# Altium integrated library WE-LF Common Mode Power Line Choke.IntLib: 54 symbols
Pins are listed as number, name and electrical type; pins without a type are passive.

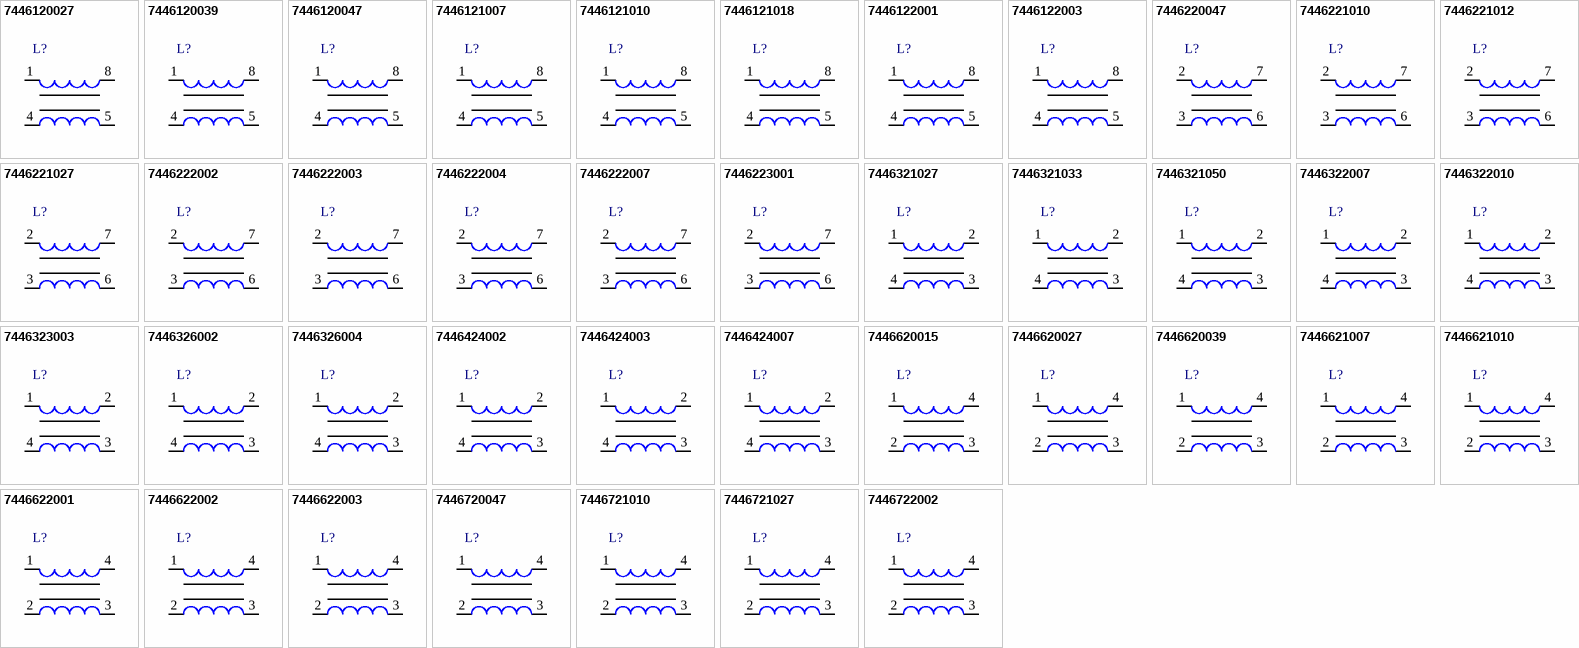
[diagram p0: symbols 7446120027 to 7446722002]

## 7446120027
designator L?
THT Common Mode Power Line Choke WE-LF, L = 27.0 mH; PartNumber: 7446120027; Inductance: 27.0 mH; DatasheetVersion: ver 2, Nov-2005; PackageReference: WE-LF-SV; PackageDescription: THT Inductor, 4-Leads, Body 18.5 x 13.5 mm; ComponentLink1Description: Manufacturer URL; ComponentLink1URL: http://www.we-online.com; ComponentLink2Description: Datasheet; ComponentLink2URL: http://www.we-online.de/katalog/media/pdf/7446120027.pdf
footprint WE-LF-SV (THT Inductor, 4-Leads, Body 18.5x13.5x20.5 mm)
pins: 1, 4, 5, 8

## 7446120039
designator L?
THT Common Mode Power Line Choke WE-LF, L = 39.0 mH; PartNumber: 7446120039; Inductance: 39.0 mH; DatasheetVersion: ver 2, Nov-2005; PackageReference: WE-LF-SV; PackageDescription: THT Inductor, 4-Leads, Body 18.5 x 13.5 mm; ComponentLink1Description: Manufacturer URL; ComponentLink1URL: http://www.we-online.com; ComponentLink2Description: Datasheet; ComponentLink2URL: http://www.we-online.de/katalog/media/pdf/7446120039.pdf
footprint WE-LF-SV (THT Inductor, 4-Leads, Body 18.5x13.5x20.5 mm)
pins: 1, 4, 5, 8

## 7446120047
designator L?
THT Common Mode Power Line Choke WE-LF, L = 47.0 mH; PartNumber: 7446120047; Inductance: 47.0 mH; DatasheetVersion: ver 2, Nov-2005; PackageReference: WE-LF-SV; PackageDescription: THT Inductor, 4-Leads, Body 18.5 x 13.5 mm; ComponentLink1Description: Manufacturer URL; ComponentLink1URL: http://www.we-online.com; ComponentLink2Description: Datasheet; ComponentLink2URL: http://www.we-online.de/katalog/media/pdf/7446120047.pdf
footprint WE-LF-SV (THT Inductor, 4-Leads, Body 18.5x13.5x20.5 mm)
pins: 1, 4, 5, 8

## 7446121007
designator L?
THT Common Mode Power Line Choke WE-LF, L = 6.80 mH; PartNumber: 7446121007; Inductance: 6.80 mH; DatasheetVersion: ver 2, Nov-2005; PackageReference: WE-LF-SV; PackageDescription: THT Inductor, 4-Leads, Body 18.5 x 13.5 mm; ComponentLink1Description: Manufacturer URL; ComponentLink1URL: http://www.we-online.com; ComponentLink2Description: Datasheet; ComponentLink2URL: http://www.we-online.de/katalog/media/pdf/7446121007.pdf
footprint WE-LF-SV (THT Inductor, 4-Leads, Body 18.5x13.5x20.5 mm)
pins: 1, 4, 5, 8

## 7446121010
designator L?
THT Common Mode Power Line Choke WE-LF, L = 10.0 mH; PartNumber: 7446121010; Inductance: 10.0 mH; DatasheetVersion: ver 2, Nov-2005; PackageReference: WE-LF-SV; PackageDescription: THT Inductor, 4-Leads, Body 18.5 x 13.5 mm; ComponentLink1Description: Manufacturer URL; ComponentLink1URL: http://www.we-online.com; ComponentLink2Description: Datasheet; ComponentLink2URL: http://www.we-online.de/katalog/media/pdf/7446121010.pdf
footprint WE-LF-SV (THT Inductor, 4-Leads, Body 18.5x13.5x20.5 mm)
pins: 1, 4, 5, 8

## 7446121018
designator L?
THT Common Mode Power Line Choke WE-LF, L = 18.0 mH; PartNumber: 7446121018; Inductance: 18.0 mH; DatasheetVersion: ver 2, Nov-2005; PackageReference: WE-LF-SV; PackageDescription: THT Inductor, 4-Leads, Body 18.5 x 13.5 mm; ComponentLink1Description: Manufacturer URL; ComponentLink1URL: http://www.we-online.com; ComponentLink2Description: Datasheet; ComponentLink2URL: http://www.we-online.de/katalog/media/pdf/7446121018.pdf
footprint WE-LF-SV (THT Inductor, 4-Leads, Body 18.5x13.5x20.5 mm)
pins: 1, 4, 5, 8

## 7446122001
designator L?
THT Common Mode Power Line Choke WE-LF, L = 1.00 mH; PartNumber: 7446122001; Inductance: 1.00 mH; DatasheetVersion: ver 2, Nov-2005; PackageReference: WE-LF-SV; PackageDescription: THT Inductor, 4-Leads, Body 18.5 x 13.5 mm; ComponentLink1Description: Manufacturer URL; ComponentLink1URL: http://www.we-online.com; ComponentLink2Description: Datasheet; ComponentLink2URL: http://www.we-online.de/katalog/media/pdf/7446122001.pdf
footprint WE-LF-SV (THT Inductor, 4-Leads, Body 18.5x13.5x20.5 mm)
pins: 1, 4, 5, 8

## 7446122003
designator L?
THT Common Mode Power Line Choke WE-LF, L = 3.30 mH; PartNumber: 7446122003; Inductance: 3.30 mH; DatasheetVersion: ver 2, Nov-2005; PackageReference: WE-LF-SV; PackageDescription: THT Inductor, 4-Leads, Body 18.5 x 13.5 mm; ComponentLink1Description: Manufacturer URL; ComponentLink1URL: http://www.we-online.com; ComponentLink2Description: Datasheet; ComponentLink2URL: http://www.we-online.de/katalog/media/pdf/7446122003.pdf
footprint WE-LF-SV (THT Inductor, 4-Leads, Body 18.5x13.5x20.5 mm)
pins: 1, 4, 5, 8

## 7446220047
designator L?
THT Common Mode Power Line Choke WE-LF, L = 47.0 mH; PartNumber: 7446220047; Inductance: 47.0 mH; DatasheetVersion: ver 3, Nov-2005; PackageReference: WE-LF-MV; PackageDescription: THT Inductor, 4-Leads, Body 23.5 x 16.0 mm; ComponentLink1Description: Manufacturer URL; ComponentLink1URL: http://www.we-online.com; ComponentLink2Description: Datasheet; ComponentLink2URL: http://www.we-online.de/katalog/media/pdf/7446220047.pdf
footprint WE-LF-MV (THT Inductor, 4-Leads, Body 23.5x16.0x25.5 mm)
pins: 2, 3, 6, 7

## 7446221010
designator L?
THT Common Mode Power Line Choke WE-LF, L = 10.0 mH; PartNumber: 7446221010; Inductance: 10.0 mH; DatasheetVersion: ver 3, Nov-2005; PackageReference: WE-LF-MV; PackageDescription: THT Inductor, 4-Leads, Body 23.5 x 16.0 mm; ComponentLink1Description: Manufacturer URL; ComponentLink1URL: http://www.we-online.com; ComponentLink2Description: Datasheet; ComponentLink2URL: http://www.we-online.de/katalog/media/pdf/7446221010.pdf
footprint WE-LF-MV (THT Inductor, 4-Leads, Body 23.5x16.0x25.5 mm)
pins: 2, 3, 6, 7

## 7446221012
designator L?
THT Common Mode Power Line Choke WE-LF, L = 12.0 mH; PartNumber: 7446221012; Inductance: 12.0 mH; DatasheetVersion: ver 3, Nov-2005; PackageReference: WE-LF-MV; PackageDescription: THT Inductor, 4-Leads, Body 23.5 x 16.0 mm; ComponentLink1Description: Manufacturer URL; ComponentLink1URL: http://www.we-online.com; ComponentLink2Description: Datasheet; ComponentLink2URL: http://www.we-online.de/katalog/media/pdf/7446221012.pdf
footprint WE-LF-MV (THT Inductor, 4-Leads, Body 23.5x16.0x25.5 mm)
pins: 2, 3, 6, 7

## 7446221027
designator L?
THT Common Mode Power Line Choke WE-LF, L = 27.0 mH; PartNumber: 7446221027; Inductance: 27.0 mH; DatasheetVersion: ver 3, Nov-2005; PackageReference: WE-LF-MV; PackageDescription: THT Inductor, 4-Leads, Body 23.5 x 16.0 mm; ComponentLink1Description: Manufacturer URL; ComponentLink1URL: http://www.we-online.com; ComponentLink2Description: Datasheet; ComponentLink2URL: http://www.we-online.de/katalog/media/pdf/7446221027.pdf
footprint WE-LF-MV (THT Inductor, 4-Leads, Body 23.5x16.0x25.5 mm)
pins: 2, 3, 6, 7

## 7446222002
designator L?
THT Common Mode Power Line Choke WE-LF, L = 2.20 mH; PartNumber: 7446222002; Inductance: 2.20 mH; DatasheetVersion: ver 3, Nov-2005; PackageReference: WE-LF-MV; PackageDescription: THT Inductor, 4-Leads, Body 23.5 x 16.0 mm; ComponentLink1Description: Manufacturer URL; ComponentLink1URL: http://www.we-online.com; ComponentLink2Description: Datasheet; ComponentLink2URL: http://www.we-online.de/katalog/media/pdf/7446222002.pdf
footprint WE-LF-MV (THT Inductor, 4-Leads, Body 23.5x16.0x25.5 mm)
pins: 2, 3, 6, 7

## 7446222003
designator L?
THT Common Mode Power Line Choke WE-LF, L = 3.30 mH; PartNumber: 7446222003; Inductance: 3.30 mH; DatasheetVersion: ver 3, Nov-2005; PackageReference: WE-LF-MV; PackageDescription: THT Inductor, 4-Leads, Body 23.5 x 16.0 mm; ComponentLink1Description: Manufacturer URL; ComponentLink1URL: http://www.we-online.com; ComponentLink2Description: Datasheet; ComponentLink2URL: http://www.we-online.de/katalog/media/pdf/7446222003.pdf
footprint WE-LF-MV (THT Inductor, 4-Leads, Body 23.5x16.0x25.5 mm)
pins: 2, 3, 6, 7

## 7446222004
designator L?
THT Common Mode Power Line Choke WE-LF, L = 4.20 mH; PartNumber: 7446222004; Inductance: 4.20 mH; DatasheetVersion: ver 3, Nov-2005; PackageReference: WE-LF-MV; PackageDescription: THT Inductor, 4-Leads, Body 23.5 x 16.0 mm; ComponentLink1Description: Manufacturer URL; ComponentLink1URL: http://www.we-online.com; ComponentLink2Description: Datasheet; ComponentLink2URL: http://www.we-online.de/katalog/media/pdf/7446222004.pdf
footprint WE-LF-MV (THT Inductor, 4-Leads, Body 23.5x16.0x25.5 mm)
pins: 2, 3, 6, 7

## 7446222007
designator L?
THT Common Mode Power Line Choke WE-LF, L = 6.80 mH; PartNumber: 7446222007; Inductance: 6.80 mH; DatasheetVersion: ver 3, Nov-2005; PackageReference: WE-LF-MV; PackageDescription: THT Inductor, 4-Leads, Body 23.5 x 16.0 mm; ComponentLink1Description: Manufacturer URL; ComponentLink1URL: http://www.we-online.com; ComponentLink2Description: Datasheet; ComponentLink2URL: http://www.we-online.de/katalog/media/pdf/7446222007.pdf
footprint WE-LF-MV (THT Inductor, 4-Leads, Body 23.5x16.0x25.5 mm)
pins: 2, 3, 6, 7

## 7446223001
designator L?
THT Common Mode Power Line Choke WE-LF, L = 1.00 mH; PartNumber: 7446223001; Inductance: 1.00 mH; DatasheetVersion: ver 3, Nov-2005; PackageReference: WE-LF-MV; PackageDescription: THT Inductor, 4-Leads, Body 23.5 x 16.0 mm; ComponentLink1Description: Manufacturer URL; ComponentLink1URL: http://www.we-online.com; ComponentLink2Description: Datasheet; ComponentLink2URL: http://www.we-online.de/katalog/media/pdf/7446223001.pdf
footprint WE-LF-MV (THT Inductor, 4-Leads, Body 23.5x16.0x25.5 mm)
pins: 2, 3, 6, 7

## 7446321027
designator L?
THT Common Mode Power Line Choke WE-LF, L = 27.0 mH; PartNumber: 7446321027; Inductance: 27.0 mH; DatasheetVersion: ver 4, Nov-2005; PackageReference: WE-LF-LV; PackageDescription: THT Inductor, 4-Leads, Body 26.5 x 18.5 mm; ComponentLink1Description: Manufacturer URL; ComponentLink1URL: http://www.we-online.com; ComponentLink2Description: Datasheet; ComponentLink2URL: http://www.we-online.de/katalog/media/pdf/7446321027.pdf
footprint WE-LF-LV (THT Inductor, 4-Leads, Body 26.5x18.5x30.5 mm)
pins: 1, 2, 3, 4

## 7446321033
designator L?
THT Common Mode Power Line Choke WE-LF, L = 33.0 mH; PartNumber: 7446321033; Inductance: 33.0 mH; DatasheetVersion: ver 4, Nov-2005; PackageReference: WE-LF-LV; PackageDescription: THT Inductor, 4-Leads, Body 26.5 x 18.5 mm; ComponentLink1Description: Manufacturer URL; ComponentLink1URL: http://www.we-online.com; ComponentLink2Description: Datasheet; ComponentLink2URL: http://www.we-online.de/katalog/media/pdf/7446321033.pdf
footprint WE-LF-LV (THT Inductor, 4-Leads, Body 26.5x18.5x30.5 mm)
pins: 1, 2, 3, 4

## 7446321050
designator L?
THT Common Mode Power Line Choke WE-LF, L = 50.0 mH; PartNumber: 7446321050; Inductance: 50.0 mH; DatasheetVersion: ver 4, Nov-2005; PackageReference: WE-LF-LV; PackageDescription: THT Inductor, 4-Leads, Body 26.5 x 18.5 mm; ComponentLink1Description: Manufacturer URL; ComponentLink1URL: http://www.we-online.com; ComponentLink2Description: Datasheet; ComponentLink2URL: http://www.we-online.de/katalog/media/pdf/7446321050.pdf
footprint WE-LF-LV (THT Inductor, 4-Leads, Body 26.5x18.5x30.5 mm)
pins: 1, 2, 3, 4

## 7446322007
designator L?
THT Common Mode Power Line Choke WE-LF, L = 6.80 mH; PartNumber: 7446322007; Inductance: 6.80 mH; DatasheetVersion: ver 4, Nov-2005; PackageReference: WE-LF-LV; PackageDescription: THT Inductor, 4-Leads, Body 26.5 x 18.5 mm; ComponentLink1Description: Manufacturer URL; ComponentLink1URL: http://www.we-online.com; ComponentLink2Description: Datasheet; ComponentLink2URL: http://www.we-online.de/katalog/media/pdf/7446322007.pdf
footprint WE-LF-LV (THT Inductor, 4-Leads, Body 26.5x18.5x30.5 mm)
pins: 1, 2, 3, 4

## 7446322010
designator L?
THT Common Mode Power Line Choke WE-LF, L = 10.0 mH; PartNumber: 7446322010; Inductance: 10.0 mH; DatasheetVersion: ver 4, Nov-2005; PackageReference: WE-LF-LV; PackageDescription: THT Inductor, 4-Leads, Body 26.5 x 18.5 mm; ComponentLink1Description: Manufacturer URL; ComponentLink1URL: http://www.we-online.com; ComponentLink2Description: Datasheet; ComponentLink2URL: http://www.we-online.de/katalog/media/pdf/7446322010.pdf
footprint WE-LF-LV (THT Inductor, 4-Leads, Body 26.5x18.5x30.5 mm)
pins: 1, 2, 3, 4

## 7446323003
designator L?
THT Common Mode Power Line Choke WE-LF, L = 2.70 mH; PartNumber: 7446323003; Inductance: 2.70 mH; DatasheetVersion: ver 4, Nov-2005; PackageReference: WE-LF-LV; PackageDescription: THT Inductor, 4-Leads, Body 26.5 x 18.5 mm; ComponentLink1Description: Manufacturer URL; ComponentLink1URL: http://www.we-online.com; ComponentLink2Description: Datasheet; ComponentLink2URL: http://www.we-online.de/katalog/media/pdf/7446323003.pdf
footprint WE-LF-LV (THT Inductor, 4-Leads, Body 26.5x18.5x30.5 mm)
pins: 1, 2, 3, 4

## 7446326002
designator L?
THT Common Mode Power Line Choke WE-LF, L = 1.80 mH; PartNumber: 7446326002; Inductance: 1.80 mH; DatasheetVersion: ver 4, Nov-2005; PackageReference: WE-LF-LV; PackageDescription: THT Inductor, 4-Leads, Body 26.5 x 18.5 mm; ComponentLink1Description: Manufacturer URL; ComponentLink1URL: http://www.we-online.com; ComponentLink2Description: Datasheet; ComponentLink2URL: http://www.we-online.de/katalog/media/pdf/7446326002.pdf
footprint WE-LF-LV (THT Inductor, 4-Leads, Body 26.5x18.5x30.5 mm)
pins: 1, 2, 3, 4

## 7446326004
designator L?
THT Common Mode Power Line Choke WE-LF, L=4.00 mH; PartNumber: 7446326004; Inductance: 4.00 mH; PackageReference: WE-LF-LV; PackageDescription: THT Inductor, 4-Leads, Body 26.5 x 18.5 mm; ComponentLink1Description: Manufacturer URL; ComponentLink1URL: http://www.we-online.com; ComponentLink2Description: Datasheet; ComponentLink2URL: http://www.we-online.de/katalog/media/pdf/7446326004.pdf
footprint WE-LF-LV (THT Inductor, 4-Leads, Body 26.5x18.5x30.5 mm)
pins: 1, 2, 3, 4

## 7446424002
designator L?
THT Common Mode Power Line Choke WE-LF, L = 2.20 mH; PartNumber: 7446424002; Inductance: 2.20 mH; DatasheetVersion: ver 3, Nov-2005; PackageReference: WE-LF-XV; PackageDescription: THT Inductor, 4-Leads, Body 32.5 x 21.5 mm; ComponentLink1Description: Manufacturer URL; ComponentLink1URL: http://www.we-online.com; ComponentLink2Description: Datasheet; ComponentLink2URL: http://www.we-online.de/katalog/media/pdf/7446424002.pdf
footprint WE-LF-XV (THT Inductor, 4-Leads, Body 32.5x21.5x35.5 mm)
pins: 1, 2, 3, 4

## 7446424003
designator L?
THT Common Mode Power Line Choke WE-LF, L = 3.30 mH; PartNumber: 7446424003; Inductance: 3.30 mH; DatasheetVersion: ver 3, Nov-2005; PackageReference: WE-LF-XV; PackageDescription: THT Inductor, 4-Leads, Body 32.5 x 21.5 mm; ComponentLink1Description: Manufacturer URL; ComponentLink1URL: http://www.we-online.com; ComponentLink2Description: Datasheet; ComponentLink2URL: http://www.we-online.de/katalog/media/pdf/7446424003.pdf
footprint WE-LF-XV (THT Inductor, 4-Leads, Body 32.5x21.5x35.5 mm)
pins: 1, 2, 3, 4

## 7446424007
designator L?
THT Common Mode Power Line Choke WE-LF, L=6.80 mH; PartNumber: 7446424007; Inductance: 6.80 mH; PackageReference: WE-LF-XV; PackageDescription: THT Inductor, 4-Leads, Body 32.5 x 21.5 mm; ComponentLink1Description: Manufacturer URL; ComponentLink1URL: http://www.we-online.com; ComponentLink2Description: Datasheet; ComponentLink2URL: http://www.we-online.de/katalog/media/pdf/7446424007.pdf
footprint WE-LF-XV (THT Inductor, 4-Leads, Body 32.5x21.5x35.5 mm)
pins: 1, 2, 3, 4

## 7446620015
designator L?
THT Common Mode Power Line Choke WE-LF, L = 15.0 mH; PartNumber: 7446620015; Inductance: 15.0 mH; DatasheetVersion: ver 3, Nov-2005; PackageReference: WE-LF-SH; PackageDescription: THT Inductor, 4-Leads, Body 18.0 x 18.0 mm; ComponentLink1Description: Manufacturer URL; ComponentLink1URL: http://www.we-online.com; ComponentLink2Description: Datasheet; ComponentLink2URL: http://www.we-online.de/katalog/media/pdf/7446620015.pdf
footprint WE-LF-SH (THT Inductor, 4-Leads, Body 18.0x18.0x13.0 mm)
pins: 1, 2, 3, 4

## 7446620027
designator L?
THT Common Mode Power Line Choke WE-LF, L = 27.0 mH; PartNumber: 7446620027; Inductance: 27.0 mH; DatasheetVersion: ver 3, Nov-2005; PackageReference: WE-LF-SH; PackageDescription: THT Inductor, 4-Leads, Body 18.0 x 18.0 mm; ComponentLink1Description: Manufacturer URL; ComponentLink1URL: http://www.we-online.com; ComponentLink2Description: Datasheet; ComponentLink2URL: http://www.we-online.de/katalog/media/pdf/7446620027.pdf
footprint WE-LF-SH (THT Inductor, 4-Leads, Body 18.0x18.0x13.0 mm)
pins: 1, 2, 3, 4

## 7446620039
designator L?
THT Common Mode Power Line Choke WE-LF, L = 39.0 mH; PartNumber: 7446620039; Inductance: 39.0 mH; DatasheetVersion: ver 3, Nov-2005; PackageReference: WE-LF-SH; PackageDescription: THT Inductor, 4-Leads, Body 18.0 x 18.0 mm; ComponentLink1Description: Manufacturer URL; ComponentLink1URL: http://www.we-online.com; ComponentLink2Description: Datasheet; ComponentLink2URL: http://www.we-online.de/katalog/media/pdf/7446620039.pdf
footprint WE-LF-SH (THT Inductor, 4-Leads, Body 18.0x18.0x13.0 mm)
pins: 1, 2, 3, 4

## 7446621007
designator L?
THT Common Mode Power Line Choke WE-LF, L = 6.80 mH; PartNumber: 7446621007; Inductance: 6.80 mH; DatasheetVersion: ver 3, Nov-2005; PackageReference: WE-LF-SH; PackageDescription: THT Inductor, 4-Leads, Body 18.0 x 18.0 mm; ComponentLink1Description: Manufacturer URL; ComponentLink1URL: http://www.we-online.com; ComponentLink2Description: Datasheet; ComponentLink2URL: http://www.we-online.de/katalog/media/pdf/7446621007.pdf
footprint WE-LF-SH (THT Inductor, 4-Leads, Body 18.0x18.0x13.0 mm)
pins: 1, 2, 3, 4

## 7446621010
designator L?
THT Common Mode Power Line Choke WE-LF, L = 10.0 mH; PartNumber: 7446621010; Inductance: 10.0 mH; DatasheetVersion: ver 3, Nov-2005; PackageReference: WE-LF-SH; PackageDescription: THT Inductor, 4-Leads, Body 18.0 x 18.0 mm; ComponentLink1Description: Manufacturer URL; ComponentLink1URL: http://www.we-online.com; ComponentLink2Description: Datasheet; ComponentLink2URL: http://www.we-online.de/katalog/media/pdf/7446621010.pdf
footprint WE-LF-SH (THT Inductor, 4-Leads, Body 18.0x18.0x13.0 mm)
pins: 1, 2, 3, 4

## 7446622001
designator L?
THT Common Mode Power Line Choke WE-LF, L = 1.00 mH; PartNumber: 7446622001; Inductance: 1.00 mH; DatasheetVersion: ver 3, Nov-2005; PackageReference: WE-LF-SH; PackageDescription: THT Inductor, 4-Leads, Body 18.0 x 18.0 mm; ComponentLink1Description: Manufacturer URL; ComponentLink1URL: http://www.we-online.com; ComponentLink2Description: Datasheet; ComponentLink2URL: http://www.we-online.de/katalog/media/pdf/7446622001.pdf
footprint WE-LF-SH (THT Inductor, 4-Leads, Body 18.0x18.0x13.0 mm)
pins: 1, 2, 3, 4

## 7446622002
designator L?
THT Common Mode Power Line Choke WE-LF, L = 2.20 mH; PartNumber: 7446622002; Inductance: 2.20 mH; DatasheetVersion: ver 3, Nov-2005; PackageReference: WE-LF-SH; PackageDescription: THT Inductor, 4-Leads, Body 18.0 x 18.0 mm; ComponentLink1Description: Manufacturer URL; ComponentLink1URL: http://www.we-online.com; ComponentLink2Description: Datasheet; ComponentLink2URL: http://www.we-online.de/katalog/media/pdf/7446622002.pdf
footprint WE-LF-SH (THT Inductor, 4-Leads, Body 18.0x18.0x13.0 mm)
pins: 1, 2, 3, 4

## 7446622003
designator L?
THT Common Mode Power Line Choke WE-LF, L = 3.30 mH; PartNumber: 7446622003; Inductance: 3.30 mH; DatasheetVersion: ver 3, Nov-2005; PackageReference: WE-LF-SH; PackageDescription: THT Inductor, 4-Leads, Body 18.0 x 18.0 mm; ComponentLink1Description: Manufacturer URL; ComponentLink1URL: http://www.we-online.com; ComponentLink2Description: Datasheet; ComponentLink2URL: http://www.we-online.de/katalog/media/pdf/7446622003.pdf
footprint WE-LF-SH (THT Inductor, 4-Leads, Body 18.0x18.0x13.0 mm)
pins: 1, 2, 3, 4

## 7446720047
designator L?
THT Common Mode Power Line Choke WE-LF, L = 47.0 mH; PartNumber: 7446720047; Inductance: 47.0 mH; DatasheetVersion: ver 3, Nov-2005; PackageReference: WE-LF-MH; PackageDescription: THT Inductor, 4-Leads, Body 23.0 x 23.0 mm; ComponentLink1Description: Manufacturer URL; ComponentLink1URL: http://www.we-online.com; ComponentLink2Description: Datasheet; ComponentLink2URL: http://www.we-online.de/katalog/media/pdf/7446720047.pdf
footprint WE-LF-MH (THT Inductor, 4-Leads, Body 23.0x23.0x14.5 mm)
pins: 1, 2, 3, 4

## 7446721010
designator L?
THT Common Mode Power Line Choke WE-LF, L = 10.0 mH; PartNumber: 7446721010; Inductance: 10.0 mH; DatasheetVersion: ver 3, Nov-2005; PackageReference: WE-LF-MH; PackageDescription: THT Inductor, 4-Leads, Body 23.0 x 23.0 mm; ComponentLink1Description: Manufacturer URL; ComponentLink1URL: http://www.we-online.com; ComponentLink2Description: Datasheet; ComponentLink2URL: http://www.we-online.de/katalog/media/pdf/7446721010.pdf
footprint WE-LF-MH (THT Inductor, 4-Leads, Body 23.0x23.0x14.5 mm)
pins: 1, 2, 3, 4

## 7446721027
designator L?
THT Common Mode Power Line Choke WE-LF, L = 27.0 mH; PartNumber: 7446721027; Inductance: 27.0 mH; DatasheetVersion: ver 3, Nov-2005; PackageReference: WE-LF-MH; PackageDescription: THT Inductor, 4-Leads, Body 23.0 x 23.0 mm; ComponentLink1Description: Manufacturer URL; ComponentLink1URL: http://www.we-online.com; ComponentLink2Description: Datasheet; ComponentLink2URL: http://www.we-online.de/katalog/media/pdf/7446721027.pdf
footprint WE-LF-MH (THT Inductor, 4-Leads, Body 23.0x23.0x14.5 mm)
pins: 1, 2, 3, 4

## 7446722002
designator L?
THT Common Mode Power Line Choke WE-LF, L = 2.20 mH; PartNumber: 7446722002; Inductance: 2.20 mH; DatasheetVersion: ver 3, Nov-2005; PackageReference: WE-LF-MH; PackageDescription: THT Inductor, 4-Leads, Body 23.0 x 23.0 mm; ComponentLink1Description: Manufacturer URL; ComponentLink1URL: http://www.we-online.com; ComponentLink2Description: Datasheet; ComponentLink2URL: http://www.we-online.de/katalog/media/pdf/7446722002.pdf
footprint WE-LF-MH (THT Inductor, 4-Leads, Body 23.0x23.0x14.5 mm)
pins: 1, 2, 3, 4

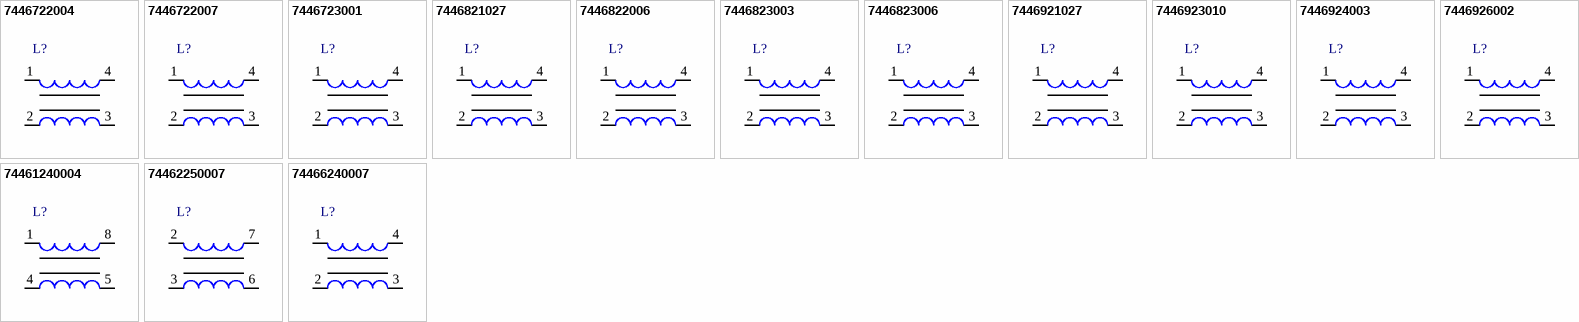
[diagram p1: symbols 7446722004 to 74466240007]

## 7446722004
designator L?
THT Common Mode Power Line Choke WE-LF, L = 4.20 mH; PartNumber: 7446722004; Inductance: 4.20 mH; DatasheetVersion: ver 3, Nov-2005; PackageReference: WE-LF-MH; PackageDescription: THT Inductor, 4-Leads, Body 23.0 x 23.0 mm; ComponentLink1Description: Manufacturer URL; ComponentLink1URL: http://www.we-online.com; ComponentLink2Description: Datasheet; ComponentLink2URL: http://www.we-online.de/katalog/media/pdf/7446722004.pdf
footprint WE-LF-MH (THT Inductor, 4-Leads, Body 23.0x23.0x14.5 mm)
pins: 1, 2, 3, 4

## 7446722007
designator L?
THT Common Mode Power Line Choke WE-LF, L = 6.80 mH; PartNumber: 7446722007; Inductance: 6.80 mH; DatasheetVersion: ver 3, Nov-2005; PackageReference: WE-LF-MH; PackageDescription: THT Inductor, 4-Leads, Body 23.0 x 23.0 mm; ComponentLink1Description: Manufacturer URL; ComponentLink1URL: http://www.we-online.com; ComponentLink2Description: Datasheet; ComponentLink2URL: http://www.we-online.de/katalog/media/pdf/7446722007.pdf
footprint WE-LF-MH (THT Inductor, 4-Leads, Body 23.0x23.0x14.5 mm)
pins: 1, 2, 3, 4

## 7446723001
designator L?
THT Common Mode Power Line Choke WE-LF, L = 1.20 mH; PartNumber: 7446723001; Inductance: 1.20 mH; DatasheetVersion: ver 3, Nov-2005; PackageReference: WE-LF-MH; PackageDescription: THT Inductor, 4-Leads, Body 23.0 x 23.0 mm; ComponentLink1Description: Manufacturer URL; ComponentLink1URL: http://www.we-online.com; ComponentLink2Description: Datasheet; ComponentLink2URL: http://www.we-online.de/katalog/media/pdf/7446723001.pdf
footprint WE-LF-MH (THT Inductor, 4-Leads, Body 23.0x23.0x14.5 mm)
pins: 1, 2, 3, 4

## 7446821027
designator L?
THT Common Mode Power Line Choke WE-LF, L = 27.0 mH; PartNumber: 7446821027; Inductance: 27.0 mH; DatasheetVersion: ver 3, Nov-2005; PackageReference: WE-LF-LH; PackageDescription: THT Inductor, 4-Leads, Body 28.5 x 28.5 mm; ComponentLink1Description: Manufacturer URL; ComponentLink1URL: http://www.we-online.com; ComponentLink2Description: Datasheet; ComponentLink2URL: http://www.we-online.de/katalog/media/pdf/7446821027.pdf
footprint WE-LF-LH (THT Inductor, 4-Leads, Body 28.5x28.5x17.0 mm)
pins: 1, 2, 3, 4

## 7446822006
designator L?
THT Common Mode Power Line Choke WE-LF, L = 5.60 mH; PartNumber: 7446822006; Inductance: 5.60 mH; DatasheetVersion: ver 3, Nov-2005; PackageReference: WE-LF-LH; PackageDescription: THT Inductor, 4-Leads, Body 28.5 x 28.5 mm; ComponentLink1Description: Manufacturer URL; ComponentLink1URL: http://www.we-online.com; ComponentLink2Description: Datasheet; ComponentLink2URL: http://www.we-online.de/katalog/media/pdf/7446822006.pdf
footprint WE-LF-LH (THT Inductor, 4-Leads, Body 28.5x28.5x17.0 mm)
pins: 1, 2, 3, 4

## 7446823003
designator L?
THT Common Mode Power Line Choke WE-LF, L = 2.70 mH; PartNumber: 7446823003; Inductance: 2.70 mH; DatasheetVersion: ver 3, Nov-2005; PackageReference: WE-LF-LH; PackageDescription: THT Inductor, 4-Leads, Body 28.5 x 28.5 mm; ComponentLink1Description: Manufacturer URL; ComponentLink1URL: http://www.we-online.com; ComponentLink2Description: Datasheet; ComponentLink2URL: http://www.we-online.de/katalog/media/pdf/7446823003.pdf
footprint WE-LF-LH (THT Inductor, 4-Leads, Body 28.5x28.5x17.0 mm)
pins: 1, 2, 3, 4

## 7446823006
designator L?
THT Common Mode Power Line Choke WE-LF, L = 5.60 mH; PartNumber: 7446823006; Inductance: 5.60 mH; DatasheetVersion: ver 3, Nov-2005; PackageReference: WE-LF-LH; PackageDescription: THT Inductor, 4-Leads, Body 28.5 x 28.5 mm; ComponentLink1Description: Manufacturer URL; ComponentLink1URL: http://www.we-online.com; ComponentLink2Description: Datasheet; ComponentLink2URL: http://www.we-online.de/katalog/media/pdf/7446823006.pdf
footprint WE-LF-LH (THT Inductor, 4-Leads, Body 28.5x28.5x17.0 mm)
pins: 1, 2, 3, 4

## 7446921027
designator L?
THT Common Mode Power Line Choke WE-LF, L = 27.0 mH; PartNumber: 7446921027; Inductance: 27.0 mH; DatasheetVersion: ver 3, Nov-2005; PackageReference: WE-LF-XH; PackageDescription: THT Inductor, 4-Leads, Body 33.5 x 33.5 mm; ComponentLink1Description: Manufacturer URL; ComponentLink1URL: http://www.we-online.com; ComponentLink2Description: Datasheet; ComponentLink2URL: http://www.we-online.de/katalog/media/pdf/7446921027.pdf
footprint WE-LF-XH (THT Inductor, 4-Leads, Body 33.5x33.5x20.0 mm)
pins: 1, 2, 3, 4

## 7446923010
designator L?
THT Common Mode Power Line Choke WE-LF, L = 10.0 mH; PartNumber: 7446923010; Inductance: 10.0 mH; DatasheetVersion: ver 3, Nov-2005; PackageReference: WE-LF-XH; PackageDescription: THT Inductor, 4-Leads, Body 33.5 x 33.5 mm; ComponentLink1Description: Manufacturer URL; ComponentLink1URL: http://www.we-online.com; ComponentLink2Description: Datasheet; ComponentLink2URL: http://www.we-online.de/katalog/media/pdf/7446923010.pdf
footprint WE-LF-XH (THT Inductor, 4-Leads, Body 33.5x33.5x20.0 mm)
pins: 1, 2, 3, 4

## 7446924003
designator L?
THT Common Mode Power Line Choke WE-LF, L = 3.30 mH; PartNumber: 7446924003; Inductance: 3.30 mH; DatasheetVersion: ver 3, Nov-2005; PackageReference: WE-LF-XH; PackageDescription: THT Inductor, 4-Leads, Body 33.5 x 33.5 mm; ComponentLink1Description: Manufacturer URL; ComponentLink1URL: http://www.we-online.com; ComponentLink2Description: Datasheet; ComponentLink2URL: http://www.we-online.de/katalog/media/pdf/7446924003.pdf
footprint WE-LF-XH (THT Inductor, 4-Leads, Body 33.5x33.5x20.0 mm)
pins: 1, 2, 3, 4

## 7446926002
designator L?
THT Common Mode Power Line Choke WE-LF, L = 1.80 mH; PartNumber: 7446926002; Inductance: 1.80 mH; DatasheetVersion: ver 3, Nov-2005; PackageReference: WE-LF-XH; PackageDescription: THT Inductor, 4-Leads, Body 33.5 x 33.5 mm; ComponentLink1Description: Manufacturer URL; ComponentLink1URL: http://www.we-online.com; ComponentLink2Description: Datasheet; ComponentLink2URL: http://www.we-online.de/katalog/media/pdf/7446926002.pdf
footprint WE-LF-XH (THT Inductor, 4-Leads, Body 33.5x33.5x20.0 mm)
pins: 1, 2, 3, 4

## 74461240004
designator L?
THT Common Mode Power Line Choke WE-LF, L = 0.40 mH; PartNumber: 74461240004; Inductance: 0.40 mH; DatasheetVersion: ver 2, Nov-2005; PackageReference: WE-LF-SV; PackageDescription: THT Inductor, 4-Leads, Body 18.5 x 13.5 mm; ComponentLink1Description: Manufacturer URL; ComponentLink1URL: http://www.we-online.com; ComponentLink2Description: Datasheet; ComponentLink2URL: http://www.we-online.de/katalog/media/pdf/74461240004.pdf
footprint WE-LF-SV (THT Inductor, 4-Leads, Body 18.5x13.5x20.5 mm)
pins: 1, 4, 5, 8

## 74462250007
designator L?
THT Common Mode Power Line Choke WE-LF, L = 0.70 mH; PartNumber: 74462250007; Inductance: 0.70 mH; DatasheetVersion: ver 3, Nov-2005; PackageReference: WE-LF-MV; PackageDescription: THT Inductor, 4-Leads, Body 23.5 x 16.0 mm; ComponentLink1Description: Manufacturer URL; ComponentLink1URL: http://www.we-online.com; ComponentLink2Description: Datasheet; ComponentLink2URL: http://www.we-online.de/katalog/media/pdf/74462250007.pdf
footprint WE-LF-MV (THT Inductor, 4-Leads, Body 23.5x16.0x25.5 mm)
pins: 2, 3, 6, 7

## 74466240007
designator L?
THT Common Mode Power Line Choke WE-LF, L = 0.70 mH; PartNumber: 74466240007; Inductance: 0.70 mH; DatasheetVersion: ver 3, Nov-2005; PackageReference: WE-LF-SH; PackageDescription: THT Inductor, 4-Leads, Body 18.0 x 18.0 mm; ComponentLink1Description: Manufacturer URL; ComponentLink1URL: http://www.we-online.com; ComponentLink2Description: Datasheet; ComponentLink2URL: http://www.we-online.de/katalog/media/pdf/74466240007.pdf
footprint WE-LF-SH (THT Inductor, 4-Leads, Body 18.0x18.0x13.0 mm)
pins: 1, 2, 3, 4